# Altium footprint library A98093-ND.PcbLib: 2 footprints
Each footprint in its own frame and in the unit in brackets; x right, y up, seen from the top. Pads: shape width x height; smd on the part's side, far side on the other; paste and mask are expansions set on the pad; w line width, h text height; cw(c..) or ccw(c..) is an arc to the next point about the centre after c.
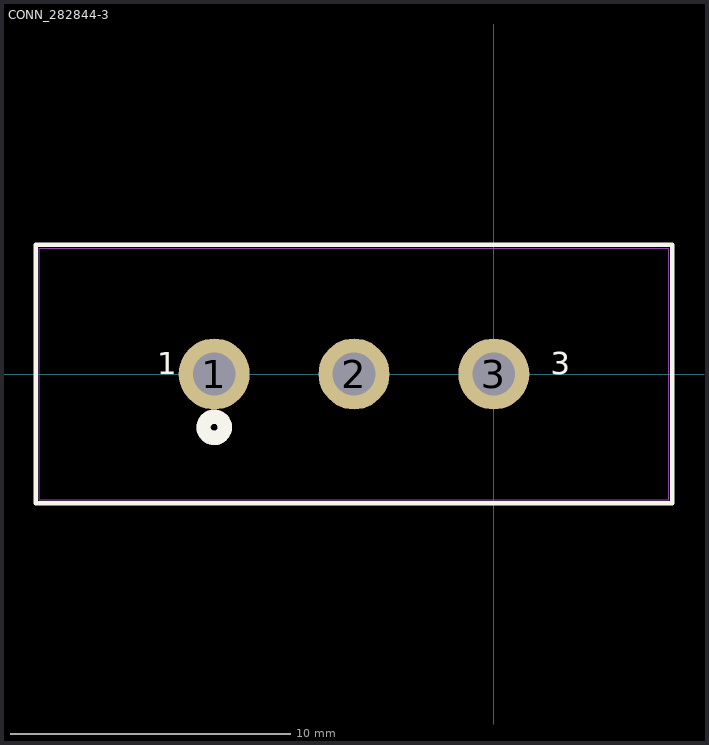
[diagram p0: the footprints below, top view; thin cyan lines are the x and y axes]

## CONN_282844-3 [mil]
pads (3):
  round 100 hole 60 mask-1000: 1(-393.7,0) 2(-196.85,0) 3(0,0)
Top Overlay:
  lines w6: -644.85,-182 -644.85,182 251.15,182 251.15,-182 -644.85,-182
  lines w20: -395.25,-60.08 ccw(c-393.7,-75) -378.7,-75 ccw(c-393.7,-75) -392.15,-60.08
  text "3" at 80,0 h31.25
  text "3" at 80,0 h31.25
  text "1" at -473.7,0 h31.25
  text "1" at -473.7,0 h31.25
Bottom Overlay:
  circle w20: c-393.7,-75 r15
  text "3" at 80,0 h31.25
  text "3" at 80,0 h31.25
  text "1" at -473.7,0 h31.25
  text "1" at -473.7,0 h31.25
Top Solder:
  region: 0,40.35 -10.44,38.97 -20.17,34.94 -28.53,28.53 -34.94,20.17 -38.97,10.44 -40.35,0 -38.97,-10.44 -34.94,-20.17 -28.53,-28.53 -20.17,-34.94 -10.44,-38.97 0,-40.35 10.44,-38.97 20.17,-34.94 28.53,-28.53 34.94,-20.17 38.97,-10.44 40.35,0 38.97,10.44 34.94,20.17 28.53,28.53 20.17,34.94 10.44,38.97
  region: -196.85,40.35 -207.29,38.97 -217.02,34.94 -225.38,28.53 -231.79,20.17 -235.82,10.44 -237.2,0 -235.82,-10.44 -231.79,-20.17 -225.38,-28.53 -217.02,-34.94 -207.29,-38.97 -196.85,-40.35 -186.41,-38.97 -176.68,-34.94 -168.32,-28.53 -161.91,-20.17 -157.88,-10.44 -156.51,0 -157.88,10.44 -161.91,20.17 -168.32,28.53 -176.68,34.94 -186.41,38.97
  region: -393.7,40.35 -404.14,38.97 -413.87,34.94 -422.23,28.53 -428.64,20.17 -432.67,10.44 -434.05,0 -432.67,-10.44 -428.64,-20.17 -422.23,-28.53 -413.87,-34.94 -404.14,-38.97 -393.7,-40.35 -383.26,-38.97 -373.53,-34.94 -365.17,-28.53 -358.76,-20.17 -354.73,-10.44 -353.36,0 -354.73,10.44 -358.76,20.17 -365.17,28.53 -373.53,34.94 -383.26,38.97
Bottom Solder:
  region: 0,40.35 -10.44,38.97 -20.17,34.94 -28.53,28.53 -34.94,20.17 -38.97,10.44 -40.35,0 -38.97,-10.44 -34.94,-20.17 -28.53,-28.53 -20.17,-34.94 -10.44,-38.97 0,-40.35 10.44,-38.97 20.17,-34.94 28.53,-28.53 34.94,-20.17 38.97,-10.44 40.35,0 38.97,10.44 34.94,20.17 28.53,28.53 20.17,34.94 10.44,38.97
  region: -196.85,40.35 -207.29,38.97 -217.02,34.94 -225.38,28.53 -231.79,20.17 -235.82,10.44 -237.2,0 -235.82,-10.44 -231.79,-20.17 -225.38,-28.53 -217.02,-34.94 -207.29,-38.97 -196.85,-40.35 -186.41,-38.97 -176.68,-34.94 -168.32,-28.53 -161.91,-20.17 -157.88,-10.44 -156.51,0 -157.88,10.44 -161.91,20.17 -168.32,28.53 -176.68,34.94 -186.41,38.97
  region: -393.7,40.35 -404.14,38.97 -413.87,34.94 -422.23,28.53 -428.64,20.17 -432.67,10.44 -434.05,0 -432.67,-10.44 -428.64,-20.17 -422.23,-28.53 -413.87,-34.94 -404.14,-38.97 -393.7,-40.35 -383.26,-38.97 -373.53,-34.94 -365.17,-28.53 -358.76,-20.17 -354.73,-10.44 -353.36,0 -354.73,10.44 -358.76,20.17 -365.17,28.53 -373.53,34.94 -383.26,38.97
Mechanical 1:
  circle w20: c-393.7,-75 r15
  lines w1: -639.85,-177 -639.85,177 246.15,177 246.15,-177 -639.85,-177
  text "3" at 80,0 h31.25
  text "3" at 80,0 h31.25
  text "1" at -473.7,0 h31.25
  text "1" at -473.7,0 h31.25

## PCBComponent_1 [mil]